# Altium footprint library RCH114.PcbLib: 1 footprints
Each footprint in its own frame and in the unit in brackets; x right, y up, seen from the top. Pads: shape width x height; smd on the part's side, far side on the other; paste and mask are expansions set on the pad; w line width, h text height; cw(c..) or ccw(c..) is an arc to the next point about the centre after c.
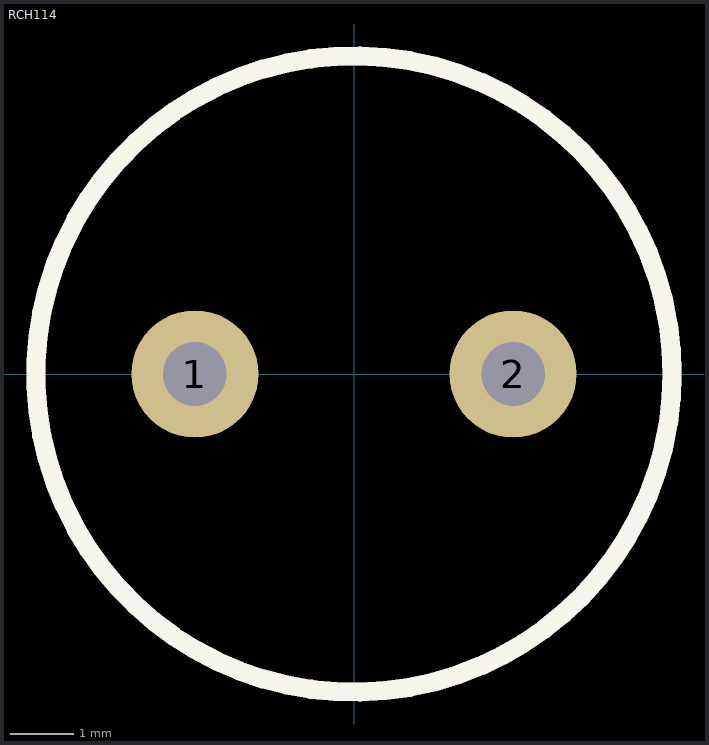
[diagram p0: the footprint, top view; thin cyan lines are the x and y axes]

## RCH114 [mm]
pads (2):
  round 2 hole 1: 1(-2.5,0) 2(2.5,0)
Top Overlay:
  circle w0.3: c0,0 r5
Mechanical 13:
  circle w0.3: c0,0 r5
  text ".Designator" at -2.349,1.575 h2.5
3D body: height 14, standoff 0, extent -5.01,-5.01 5.01,5.01